# EAGLE library part 613013143121 (library Wurth_Elektronik2)
WR-PHD 2.54mm Angled Socket Header, 13 Pins =>Code : Con_BTB_SHD_2.54_1_THT_613013143121 <http://katalog.we-online.de/media/images/eican/Con_BTB_SHD_2.54_1_THT_6130xx143121_pf2.jpg> Details see: http://katalog.we-online.de/en/em/613_0xx_143_121 Created 2014-05-29, Karrer Zheng 2014 (C) Würth Elektronik
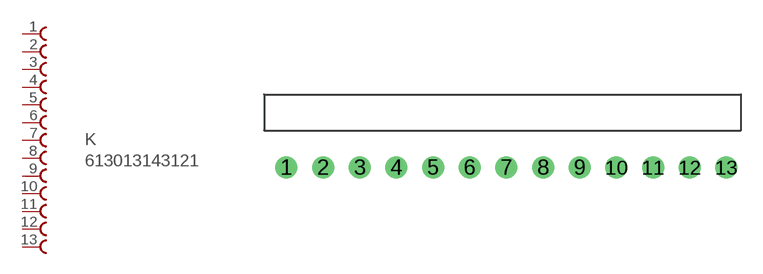
[diagram p136: symbol with the pads of 613013143121; footprint 613013143121]

Designator prefix K

## 613013143121  [613013143121]
1  1  pas
2  2  pas
3  3  pas
4  4  pas
5  5  pas
6  6  pas
7  7  pas
8  8  pas
9  9  pas
10  10  pas
11  11  pas
12  12  pas
13  13  pas

## Footprint 613013143121 (pad centres in mm)
WR-PHD 2.54mm Angeld Socket Header, 13 Pins
drill 1.02: 1 -27.94,0; 2 -25.4,0; 3 -22.86,0; 4 -20.32,0; 5 -17.78,0; 6 -15.24,0; 7 -12.7,0; 8 -10.16,0; 9 -7.62,0; 10 -5.08,0; 11 -2.54,0; 12 0,0; 13 2.54,0